# Altium schematic symbol library 2019-03-18_23-24-26.SchLib: 2 symbols
Pins are listed as number, name and electrical type; pins without a type are passive.

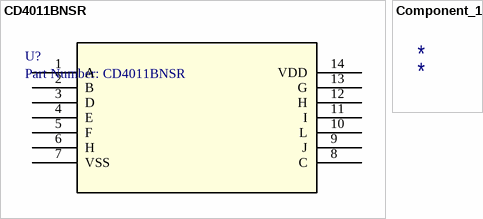
[diagram p0: symbols CD4011BNSR to Component_1]

## CD4011BNSR
designator U?, comment Part Number: CD4011BNSR
No Description Available; Manufacturer: Texas Instruments; Built_By: EMA_UL_Team; Vendor: Texas Instruments; Manufacturer_Part_Number: CD4011BNSR; Copyright: Copyright (C) 2018 Accelerated Designs. All rights reserved; RefDes: RefDes; Type: DEV; Value: Value
footprint NS14
pins: 1 A, 2 B, 3 D, 4 E, 5 F, 6 H, 7 VSS (power), 8 C, 9 J, 10 L, 11 I, 12 H, 13 G, 14 VDD (power)

## Component_1
designator *